# Altium footprint library TSSOP.PcbLib: 9 footprints
Each footprint in its own frame and in the unit in brackets; x right, y up, seen from the top. Pads: shape width x height; smd on the part's side, far side on the other; paste and mask are expansions set on the pad; w line width, h text height; cw(c..) or ccw(c..) is an arc to the next point about the centre after c.
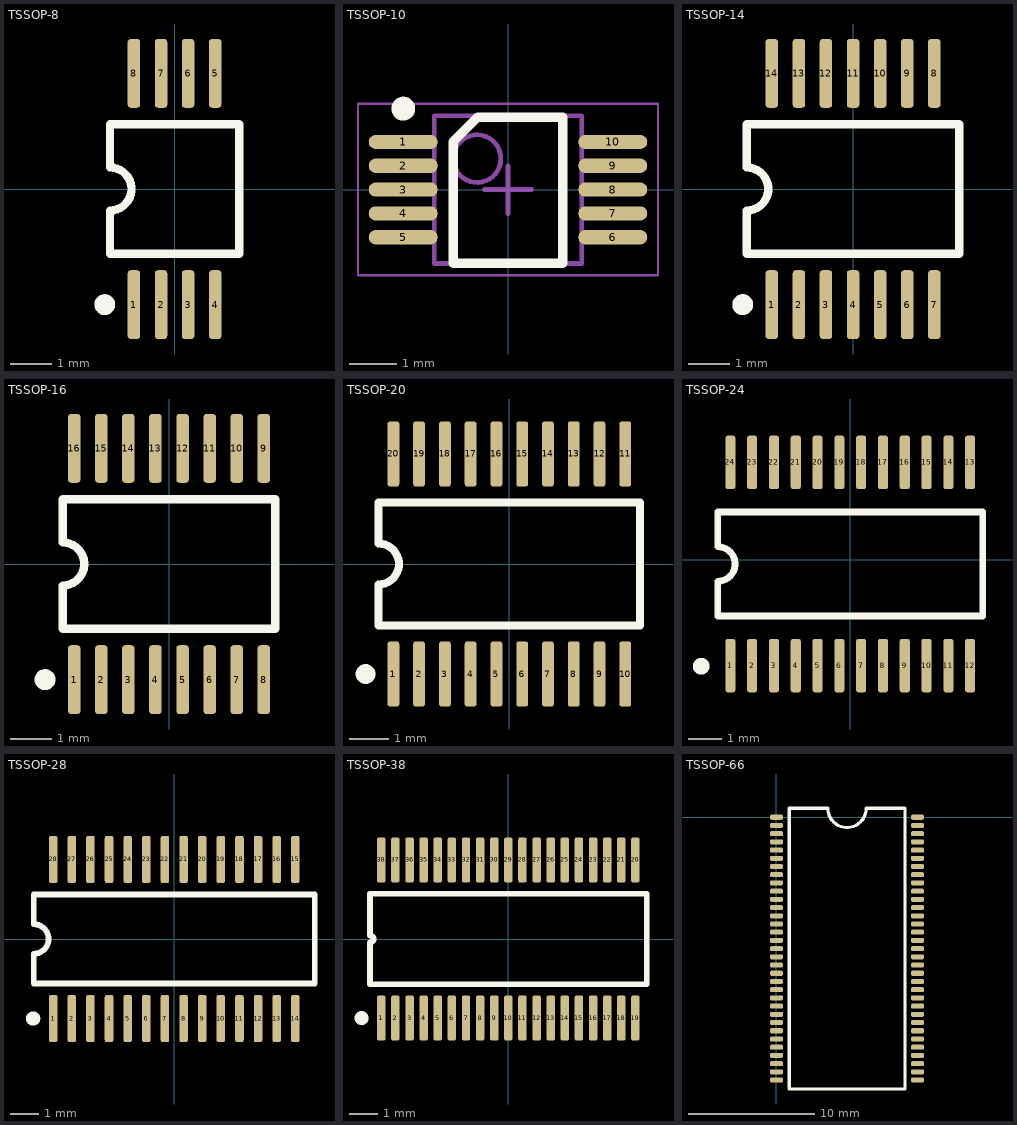
[diagram p0: the footprints below, top view; thin cyan lines are the x and y axes]

## TSSOP-8 [mm] "Shrink Small Outline; 8 Leads; Body Width 4.4 mm; Pitch 0.65 mm"
height 1.2
pads (8):
  rrect50% 0.3x1.65 smd: 1(-0.975,-2.775) 2(-0.325,-2.775) 3(0.325,-2.775) 4(0.975,-2.775) 5(0.975,2.775) 6(0.325,2.775) 7(-0.325,2.775) 8(-0.975,2.775)
Top Overlay:
  circle w0.25: c-1.675,-2.775 r0.125
  lines w0.2: -1.55,-1.55 1.55,-1.55 1.55,1.55 -1.55,1.55 -1.55,0.517 cw(c-1.55,0) -1.55,-0.517 -1.55,-1.55
3D body "User Library-TSSOP-8 3_1x4_4.STEP": height 1.1, standoff 0, extent -1.55,-3.2 1.55,3.2

## TSSOP-10 [mm]
height 1.1
pads (10):
  oval 1.45x0.3 smd: 1(-2.2,1) 2(-2.2,0.5) 3(-2.2,0) 4(-2.2,-0.5) 5(-2.2,-1) 6(2.2,-1) 7(2.2,-0.5) 8(2.2,0) 9(2.2,0.5) 10(2.2,1)
Top Overlay:
  circle w0.25: c-2.2,1.7 r0.125
  lines w0.2: -1.15,-1.55 1.15,-1.55 1.15,1.524 -0.635,1.524 -1.15,1.009 -1.15,-1.55
Mechanical 13:
  circle w0.1: c-0.65,0.65 r0.5
  lines w0.1: -1.55,-1.55 -1.55,1.55 1.55,1.55 1.55,-1.55 -1.55,-1.55
Mechanical 15:
  lines w0.05: -3.15,-1.8 -3.15,1.8 3.15,1.8 3.15,-1.8 -3.15,-1.8
  lines w0.1: -0.5,0 0.5,0 ; 0,-0.5 0,0.5
3D body "SOP127P600-8N.step": height 1.1, standoff 0, extent -2.45,-1.55 2.45,1.55

## TSSOP-14 [mm] "Shrink Small Outline; 14 Leads; Body Width 4.4 mm; Pitch 0.65 mm"
height 1.2
pads (14):
  rrect50% 0.3x1.65 smd: 1(-1.95,-2.775) 2(-1.3,-2.775) 3(-0.65,-2.775) 4(0,-2.775) 5(0.65,-2.775) 6(1.3,-2.775) 7(1.95,-2.775) 8(1.95,2.775) 9(1.3,2.775) 10(0.65,2.775) 11(0,2.775) 12(-0.65,2.775) 13(-1.3,2.775) 14(-1.95,2.775)
Top Overlay:
  circle w0.25: c-2.65,-2.775 r0.125
  lines w0.2: -2.55,-1.55 -2.55,-0.517 ccw(c-2.55,0) -2.55,0.517 -2.55,1.55 2.55,1.55 2.55,-1.55 -2.55,-1.55
3D body "User Library-TSSOP-14.STEP": height 1.2, standoff 0, extent -2.5,-3.2 2.5,3.2

## TSSOP-16 [mm] "Shrink Small Outline; 16 Leads; Body Width 4.4 mm; Pitch 0.65 mm"
height 1.2
pads (16):
  rrect50% 0.3x1.65 smd: 1(-2.275,-2.775) 2(-1.625,-2.775) 3(-0.975,-2.775) 4(-0.325,-2.775) 5(0.325,-2.775) 6(0.975,-2.775) 7(1.625,-2.775) 8(2.275,-2.775) 9(2.275,2.775) 10(1.625,2.775) 11(0.975,2.775) 12(0.325,2.775) 13(-0.325,2.775) 14(-0.975,2.775) 15(-1.625,2.775) 16(-2.275,2.775)
Top Overlay:
  circle w0.25: c-2.975,-2.775 r0.125
  lines w0.2: -2.55,-1.55 -2.55,-0.517 ccw(c-2.55,0) -2.55,0.517 -2.55,1.55 2.55,1.55 2.55,-1.55 -2.55,-1.55
3D body "User Library-TSSOP-16-2.STEP": height 1.2, standoff 0, extent -2.5,-3.2 2.5,3.2

## TSSOP-20 [mm] "Shrink Small Outline; 20 Leads; Body Width 4.4 mm; Pitch 0.65 mm"
height 1.2
pads (20):
  rrect50% 0.3x1.65 smd: 1(-2.925,-2.775) 2(-2.275,-2.775) 3(-1.625,-2.775) 4(-0.975,-2.775) 5(-0.325,-2.775) 6(0.325,-2.775) 7(0.975,-2.775) 8(1.625,-2.775) 9(2.275,-2.775) 10(2.925,-2.775) 11(2.925,2.775) 12(2.275,2.775) 13(1.625,2.775) 14(0.975,2.775) 15(0.325,2.775) 16(-0.325,2.775) 17(-0.975,2.775) 18(-1.625,2.775) 19(-2.275,2.775) 20(-2.925,2.775)
Top Overlay:
  circle w0.25: c-3.625,-2.775 r0.125
  lines w0.2: -3.3,-1.55 -3.3,-0.517 ccw(c-3.3,0) -3.3,0.517 -3.3,1.55 3.3,1.55 3.3,-1.55 -3.3,-1.55
3D body "User Library-TSSOP-20 6_6x4_4.STEP": height 1.1, standoff 0, extent -3.3,-3.2 3.3,3.2

## TSSOP-24 [mm] "Shrink Small Outline; 24 Leads; Body Width 4.4 mm; Pitch 0.65 mm"
height 1.2
pads (24):
  rrect50% 0.3x1.6 smd: 1(-3.575,-3.156) 2(-2.925,-3.156) 3(-2.275,-3.156) 4(-1.625,-3.156) 5(-0.975,-3.156) 6(-0.325,-3.156) 7(0.325,-3.156) 8(0.975,-3.156) 9(1.625,-3.156) 10(2.275,-3.156) 11(2.925,-3.156) 12(3.575,-3.156) 13(3.575,2.902) 14(2.925,2.902) 15(2.275,2.902) 16(1.625,2.902) 17(0.975,2.902) 18(0.325,2.902) 19(-0.325,2.902) 20(-0.975,2.902) 21(-1.625,2.902) 22(-2.275,2.902) 23(-2.925,2.902) 24(-3.575,2.902)
Top Overlay:
  circle w0.25: c-4.445,-3.175 r0.125
  lines w0.2: -3.95,-1.677 -3.95,-0.644 ccw(c-3.95,-0.127) -3.95,0.39 -3.95,1.423 3.95,1.423 3.95,-1.677 -3.95,-1.677
3D body "User Library-TSSOP-24.STEP": height 1.2, standoff 0, extent -3.9,-3.327 3.9,3.073

## TSSOP-28 [mm] "Shrink Small Outline; 28 Leads; Body Width 4.4 mm; Pitch 0.65 mm"
height 1.2
pads (28):
  rrect50% 0.3x1.65 smd: 1(-4.225,-2.775) 2(-3.575,-2.775) 3(-2.925,-2.775) 4(-2.275,-2.775) 5(-1.625,-2.775) 6(-0.975,-2.775) 7(-0.325,-2.775) 8(0.325,-2.775) 9(0.975,-2.775) 10(1.625,-2.775) 11(2.275,-2.775) 12(2.925,-2.775) 13(3.575,-2.775) 14(4.225,-2.775) 15(4.225,2.775) 16(3.575,2.775) 17(2.925,2.775) 18(2.275,2.775) 19(1.625,2.775) 20(0.975,2.775) 21(0.325,2.775) 22(-0.325,2.775) 23(-0.975,2.775) 24(-1.625,2.775) 25(-2.275,2.775) 26(-2.925,2.775) 27(-3.575,2.775) 28(-4.225,2.775)
Top Overlay:
  circle w0.25: c-4.925,-2.775 r0.125
  lines w0.2: -4.9,-1.55 4.9,-1.55 4.9,1.55 -4.9,1.55 -4.9,0.517 cw(c-4.9,0) -4.9,-0.517 -4.9,-1.55
3D body "User Library-TSSOP-28 9_8x4_4.STEP": height 1.1, standoff 0, extent -4.9,-3.2 4.9,3.2

## TSSOP-38 [mm] "Shrink Small Outline; 38 Leads; Body Width 4.4 mm; Pitch 0.5 mm"
height 1.2
pads (38):
  rrect50% 0.3x1.6 smd: 1(-4.5,-2.8) 2(-4,-2.8) 3(-3.5,-2.8) 4(-3,-2.8) 5(-2.5,-2.8) 6(-2,-2.8) 7(-1.5,-2.8) 8(-1,-2.8) 9(-0.5,-2.8) 10(0,-2.8) 11(0.5,-2.8) 12(1,-2.8) 13(1.5,-2.8) 14(2,-2.8) 15(2.5,-2.8) 16(3,-2.8) 17(3.5,-2.8) 18(4,-2.8) 19(4.5,-2.8) 20(4.5,2.8) 21(4,2.8) 22(3.5,2.8) 23(3,2.8) 24(2.5,2.8) 25(2,2.8) 26(1.5,2.8) 27(1,2.8) 28(0.5,2.8) 29(0,2.8) 30(-0.5,2.8) 31(-1,2.8) 32(-1.5,2.8) 33(-2,2.8) 34(-2.5,2.8) 35(-3,2.8) 36(-3.5,2.8) 37(-4,2.8) 38(-4.5,2.8)
Top Overlay:
  circle w0.25: c-5.2,-2.8 r0.125
  lines w0.2: -4.9,-1.6 4.9,-1.6 4.9,1.6 -4.9,1.6 -4.9,0.125 cw(c-4.9,0) -4.9,-0.125 -4.9,-1.6
3D body "User Library-TSSOP-38-1.STEP": height 1.2, standoff 0, extent -4.85,-3.327 4.85,3.073

## TSSOP-66 [mm]
pads (66):
  rrect50% 1x0.4 smd: 1(0,0) 2(0,-0.65) 3(0,-1.3) 4(0,-1.95) 5(0,-2.6) 6(0,-3.25) 7(0,-3.9) 8(0,-4.55) 9(0,-5.2) 10(0,-5.85) 11(0,-6.5) 12(0,-7.15) 13(0,-7.8) 14(0,-8.45) 15(0,-9.1) 16(0,-9.75) 17(0,-10.4) 18(0,-11.05) 19(0,-11.7) 20(0,-12.35) 21(0,-13) 22(0,-13.65) 23(0,-14.3) 24(0,-14.95) 25(0,-15.6) 26(0,-16.25) 27(0,-16.9) 28(0,-17.55) 29(0,-18.2) 30(0,-18.85) 31(0,-19.5) 32(0,-20.15) 33(0,-20.8) 34(11.16,-20.8) 35(11.16,-20.15) 36(11.16,-19.5) 37(11.16,-18.85) 38(11.16,-18.2) 39(11.16,-17.55) 40(11.16,-16.9) 41(11.16,-16.25) 42(11.16,-15.6) 43(11.16,-14.95) 44(11.16,-14.3) 45(11.16,-13.65) 46(11.16,-13) 47(11.16,-12.35) 48(11.16,-11.7) 49(11.16,-11.05) 50(11.16,-10.4) 51(11.16,-9.75) 52(11.16,-9.1) 53(11.16,-8.45) 54(11.16,-7.8) 55(11.16,-7.15) 56(11.16,-6.5) 57(11.16,-5.85) 58(11.16,-5.2) 59(11.16,-4.55) 60(11.16,-3.9) 61(11.16,-3.25) 62(11.16,-2.6) 63(11.16,-1.95) 64(11.16,-1.3) 65(11.16,-0.65) 66(11.16,0)
Top Overlay:
  lines w0.254: 1.016,-21.51 10.16,-21.51 10.16,0.71 7.104,0.71 cw(c5.58,0.71) 4.056,0.71 1.016,0.71 1.016,-21.51
3D body "User Library-tsopii66pin.step": height 1.2, standoff 0, extent -0.292,-21.524 11.468,0.696